# Altium footprint library CONDENSATOREN.PcbLib: 5 footprints
Each footprint in its own frame and in the unit in brackets; x right, y up, seen from the top. Pads: shape width x height; smd on the part's side, far side on the other; paste and mask are expansions set on the pad; w line width, h text height; cw(c..) or ccw(c..) is an arc to the next point about the centre after c.
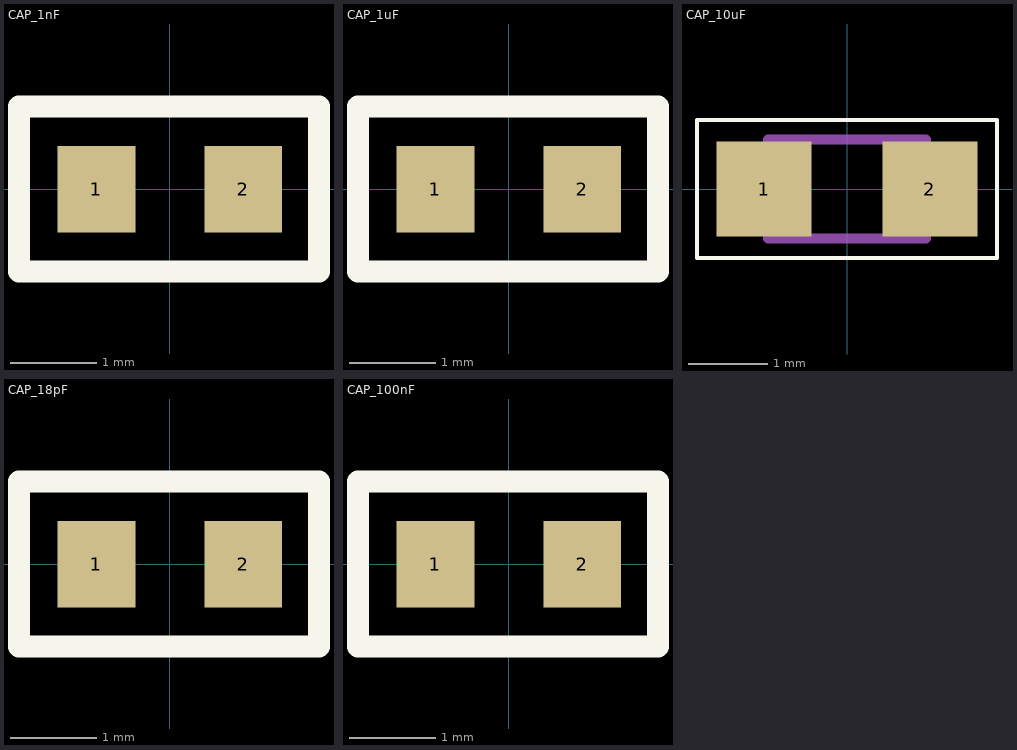
[diagram p0: the footprints below, top view; thin cyan lines are the x and y axes]

## CAP_1nF [mm]
pads (2):
  rect 0.9x1 smd paste-2539.97: 1(-0.85,0) 2(0.85,0)
Top Overlay:
  lines w0.254: -1.747,-0.951 1.726,-0.951 1.726,0.96 -1.747,0.96 -1.747,-0.951
3D body "GA0603Y102KXCAP31G.STEP": height 0.8, standoff 0, extent -0.725,-0.475 0.875,0.495

## CAP_1uF [mm]
pads (2):
  rect 0.9x1 smd paste-2539.97: 1(-0.85,0) 2(0.85,0)
Top Overlay:
  lines w0.254: -1.747,-0.951 1.726,-0.951 1.726,0.96 -1.747,0.96 -1.747,-0.951
3D body "GA0603Y102KXCAP31G.STEP": height 0.8, standoff 0, extent -0.725,-0.475 0.875,0.495

## CAP_10uF [mm]
pads (2):
  rect 1.2x1.2 smd: 1(-1.05,0) 2(1.05,0)
Top Overlay:
  lines w0.05: -1.9,-0.875 -1.9,0.875 1.9,0.875 1.9,-0.875 -1.9,-0.875
Mechanical 13:
  lines w0.127: -1,-0.625 1,-0.625 1,0.625 -1,0.625 -1,-0.625

## CAP_18pF [mm]
pads (2):
  rect 0.9x1 smd paste-2539.97: 1(-0.85,0) 2(0.85,0)
Top Overlay:
  lines w0.254: -1.747,-0.951 -1.747,0.96 1.726,0.96 1.726,-0.951 -1.747,-0.951
3D body "GA0603Y102KXCAP31G.STEP": height 0.8, standoff 0, extent -0.725,-0.475 0.875,0.495

## CAP_100nF [mm]
pads (2):
  rect 0.9x1 smd paste-2539.97: 1(-0.85,0) 2(0.85,0)
Top Overlay:
  lines w0.254: -1.747,-0.951 -1.747,0.96 1.726,0.96 1.726,-0.951 -1.747,-0.951
3D body "GA0603Y102KXCAP31G.STEP": height 0.8, standoff 0, extent -0.725,-0.475 0.875,0.495